# Altium schematic symbol library Fuse 2.Schlib: 1 symbol
Pins are listed as number, name and electrical type; pins without a type are passive.

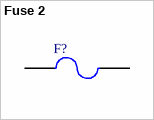
[diagram p0: symbol Fuse 2]

## Fuse 2
designator F?
Fuse
pins: 1, 2